# EAGLE library part A6841SLW-20-T (library Allegro_By_element14_Batch_1)
DABiC-5 8-Bit Serial Input Latched Sink Drivers
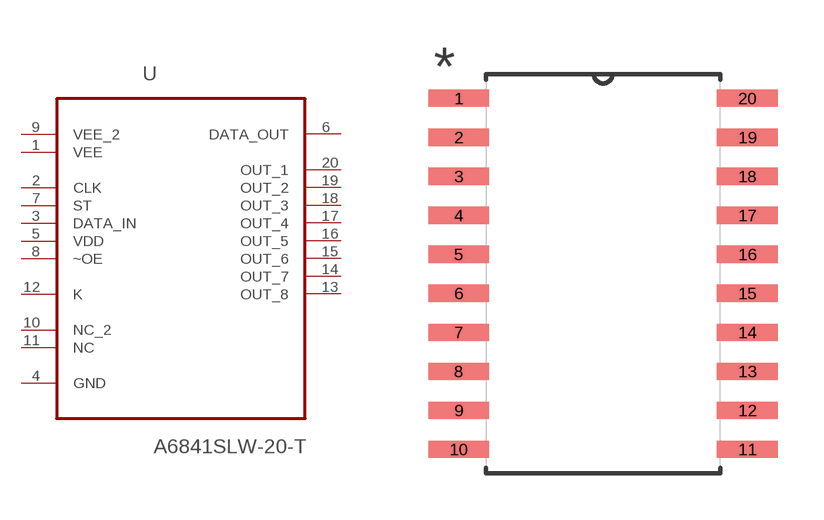
[diagram p26: symbol with the pads of SOIC127P1032X265-20N; footprint SOIC127P1032X265-20N]

Designator prefix U

## A6841SLW-20-T (MPN: A6841SLW-20-T; OC_FARNELL: 1198100; OC_NEWARK: -; PACKAGE: SOIC-20; SUPPLIER: ALLEGRO MICROSYSTEMS)  [SOIC127P1032X265-20N]
1  VEE  pwr
2  CLK  in
3  DATA_IN  in
4  GND  pas
5  VDD  in
6  DATA_OUT  out
7  ST  in
8  ~OE  in
9  VEE_2  pwr
10  NC_2  nc
11  NC  nc
12  K  in
13  OUT_8  out
14  OUT_7  out
15  OUT_6  out
16  OUT_5  out
17  OUT_4  out
18  OUT_3  out
19  OUT_2  out
20  OUT_1  out

## Footprint SOIC127P1032X265-20N (pad centres in mm)
smd 1.981 x 0.559: 1 -4.699,5.715; 2 -4.699,4.445; 3 -4.699,3.175; 4 -4.699,1.905; 5 -4.699,0.635; 6 -4.699,-0.635; 7 -4.699,-1.905; 8 -4.699,-3.175; 9 -4.699,-4.445; 10 -4.699,-5.715; 11 4.699,-5.715; 12 4.699,-4.445; 13 4.699,-3.175; 14 4.699,-1.905; 15 4.699,-0.635; 16 4.699,0.635; 17 4.699,1.905; 18 4.699,3.175; 19 4.699,4.445; 20 4.699,5.715